# EAGLE library part 52?-16F (library con-molex)
0.8mm Board to Board female 16pin connector (evaluation board)
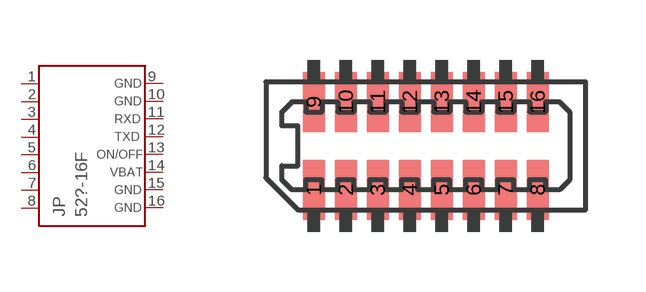
[diagram p18: symbol with the pads of 53307-1629; footprint 53307-1629]

Designator prefix JP

## 52-16F  [53307-1629]
1  P$1  pas
2  P$2  pas
3  P$3  pas
4  P$4  pas
5  P$5  pas
6  P$6  pas
7  P$7  pas
8  P$8  pas
9  P$9  pas
10  P$10  pas
11  P$11  pas
12  P$12  pas
13  P$13  pas
14  P$14  pas
15  P$15  pas
16  P$16  pas

## Footprint 53307-1629 (pad centres in mm)
smd 0.55 x 1.5: 1 -2.8,-1.1; 2 -2,-1.1; 3 -1.2,-1.1; 4 -0.4,-1.1; 5 0.4,-1.1; 6 1.2,-1.1; 7 2,-1.1; 8 2.8,-1.1; 9 -2.8,1.1; 10 -2,1.1; 11 -1.2,1.1; 12 -0.4,1.1; 13 0.4,1.1; 14 1.2,1.1; 15 2,1.1; 16 2.8,1.1